# Altium schematic symbol library usb_mini_b.Schlib: 1 symbol
Pins are listed as number, name and electrical type; pins without a type are passive.

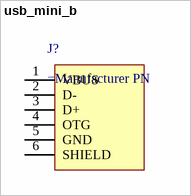
[diagram p0: symbol usb_mini_b]

## usb_mini_b
designator J?
USB Mini B
pins: 1 VBUS, 2 D-, 3 D+, 4 OTG, 5 GND, 6 SHIELD